# Altium footprint library Header.PcbLib: 28 footprints (part 1 of 2)
Each footprint in its own frame and in the unit in brackets; x right, y up, seen from the top. Pads: shape width x height; smd on the part's side, far side on the other; paste and mask are expansions set on the pad; w line width, h text height; cw(c..) or ccw(c..) is an arc to the next point about the centre after c.
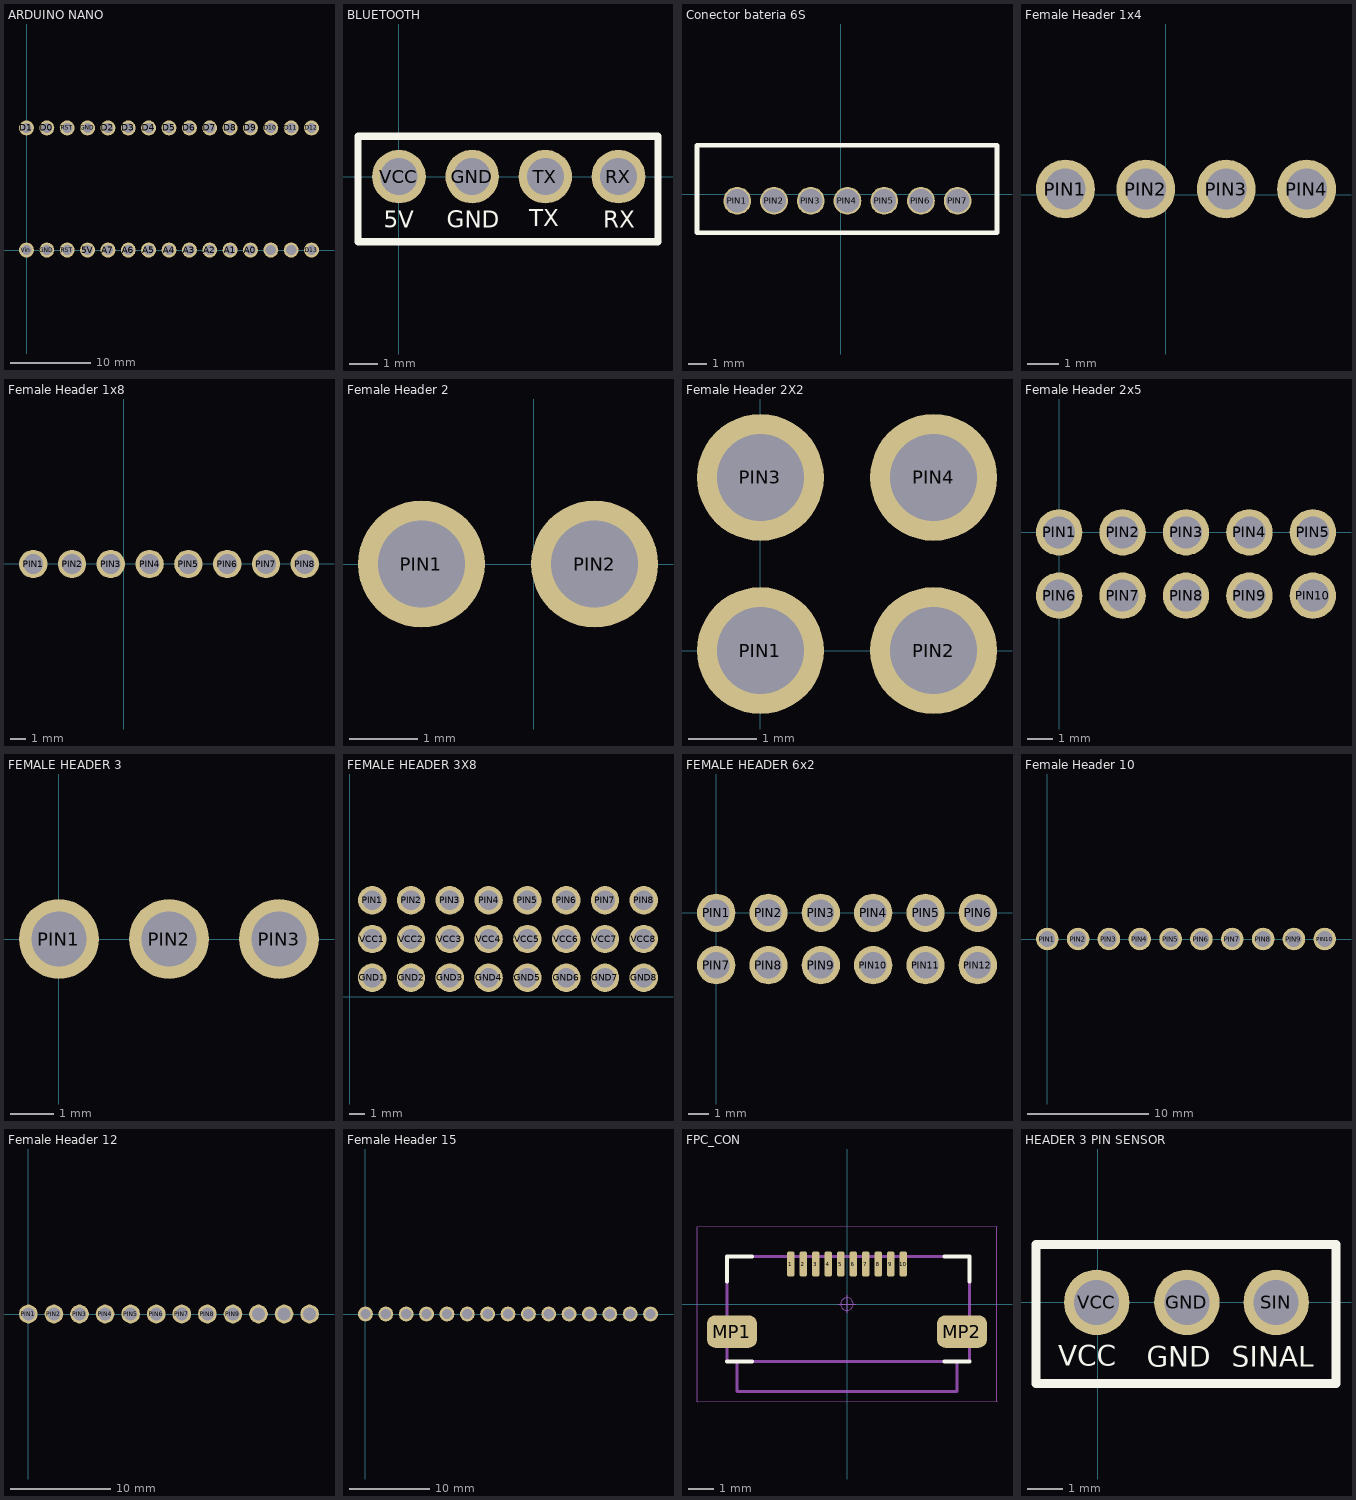
[diagram p0: the footprints below, top view; thin cyan lines are the x and y axes]

## ARDUINO NANO [mm]
pads (30):
  round 1.86 hole 1.28: 3.3V(33.01,0) 5V(7.61,0) A0(27.93,0) A1(25.39,0) A2(22.85,0) A3(20.31,0) A4(17.77,0) A5(15.23,0) A6(12.69,0) A7(10.15,0) AREF(30.47,0) D0(2.53,15.24) D1(-0.01,15.24) D2(10.15,15.24) D3(12.69,15.24) D4(15.23,15.24) D5(17.77,15.24) D6(20.31,15.24) D7(22.85,15.24) D8(25.39,15.24) D9(27.93,15.24) D10(30.47,15.24) D11(33.01,15.24) D12(35.55,15.24) D13(35.55,0) GND(2.53,0) GND(7.61,15.24) RST(5.07,0) RST(5.07,15.24) Vin(-0.01,0)
3D body "zl305-15s_p2-54_l38-6_w2-5_h5.stp": height 5, standoff -3, extent -1.526,-1.25 37.074,1.25
3D body "zl305-15s_p2-54_l38-6_w2-5_h5.stp": height 5, standoff -3, extent -1.526,13.99 37.074,16.49

## BLUETOOTH [mm]
pads (4):
  round 1.86 hole 1.28: GND(2.54,0) RX(7.62,0) TX(5.08,0) VCC(0,0)
Top Overlay:
  lines w0.254: -1.422,-2.261 -1.422,1.397 8.992,1.397 8.992,-2.261 -1.422,-2.261
  text "5V" at -0.533,-1.961 h1
  text "RX" at 7.087,-1.961 h1
  text "TX" at 4.521,-1.91 h1
  text "GND" at 1.651,-1.972 h1
3D body "User Library-ZL262-4SG.step": height 8.4, standoff -3.15, extent -1.295,-1.255 8.865,1.245
3D body "User Library-HC-06.step": height 46, standoff 3.25, extent -3.672,-0.434 11.328,5.666

## Conector bateria 6S [mm]
pads (7):
  round 1.5 hole 1.28: PIN1(-5.6,-0.35) PIN2(-3.617,-0.35) PIN3(-1.633,-0.35) PIN4(0.35,-0.35) PIN5(2.333,-0.35) PIN6(4.317,-0.35) PIN7(6.3,-0.35)
Top Overlay:
  lines w0.254: -7.775,-2.075 8.425,-2.075 8.425,2.65 -7.775,2.65 -7.775,-2.075
3D body "User Library-b7b-ph-ks.STEP": height 6, standoff -3, extent -7.6,-1.975 8.3,2.525

## Female Header 1x4 [mm]
pads (4):
  round 1.86 hole 1.28: PIN1(-3.17,0.175) PIN2(-0.63,0.175) PIN3(1.91,0.175) PIN4(4.45,0.175)
3D body "User Library-ZL262-4SG.STEP": height 8.4, standoff -3.15, extent -4.41,-1.125 5.75,1.375

## Female Header 1x8 [mm]
pads (8):
  round 1.86 hole 1.28: PIN1(-5.925,-0.025) PIN2(-3.385,-0.025) PIN3(-0.845,-0.025) PIN4(1.695,-0.025) PIN5(4.235,-0.025) PIN6(6.775,-0.025) PIN7(9.315,-0.025) PIN8(11.855,-0.025)
3D body "User Library-SIL_Socket08_.STEP": height 8.5, standoff -10.46, extent -7.245,-1.295 13.075,1.245

## Female Header 2 [mm]
pads (2):
  round 1.86 hole 1.28: PIN1(-1.651,0) PIN2(0.889,0)
3D body "User Library-HeaderRangLuocDonThang2_54mm.STEP": height 8.5, standoff -3.2, extent -3.048,-1.397 2.032,1.143

## Female Header 2X2 [mm]
pads (4):
  round 1.86 hole 1.28: PIN1(0,0) PIN2(2.54,0) PIN3(0,2.54) PIN4(2.54,2.54)
3D body "User Library-HeaderRangLuocDonThang2_54mm.STEP": height 8.5, standoff -3.2, extent -1.323,-1.347 3.757,1.193
3D body "User Library-HeaderRangLuocDonThang2_54mm.STEP": height 8.5, standoff -3.2, extent -1.323,1.203 3.757,3.743

## Female Header 2x5 [mm]
pads (10):
  round 1.86 hole 1.28: PIN1(0,0) PIN2(2.54,0) PIN3(5.08,0) PIN4(7.62,0) PIN5(10.16,0) PIN6(0,-2.54) PIN7(2.54,-2.54) PIN8(5.08,-2.54) PIN9(7.62,-2.54) PIN10(10.16,-2.54)
3D body "User Library-Header_Fem_1X10.STEP": height 8.5, standoff -3.2, extent -1.38,-3.81 11.57,1.27

## FEMALE HEADER 3 [mm]
pads (3):
  round 1.86 hole 1.28: PIN1(0,0) PIN2(2.565,0) PIN3(5.13,0)
3D body "User Library-zl262-3s_p2-54_l8-12_w2-54_h8-5.STEP": height 8.5, standoff -3, extent -1.516,-1.27 6.604,1.27

## FEMALE HEADER 3X8 [mm]
pads (24):
  round 1.86 hole 1.28: GND1(1.472,1.25) GND2(4.012,1.25) GND3(6.552,1.25) GND4(9.092,1.25) GND5(11.632,1.25) GND6(14.172,1.25) GND7(16.712,1.25) GND8(19.252,1.25) PIN1(1.472,6.33) PIN2(4.012,6.33) PIN3(6.552,6.33) PIN4(9.092,6.33) PIN5(11.632,6.33) PIN6(14.172,6.33) PIN7(16.712,6.33) PIN8(19.252,6.33) VCC1(1.472,3.79) VCC2(4.012,3.79) VCC3(6.552,3.79) VCC4(9.092,3.79) VCC5(11.632,3.79) VCC6(14.172,3.79) VCC7(16.712,3.79) VCC8(19.252,3.79)
3D body "User Library-zl262-8s_p2-54_l20-82_w2-54_h8-5.STEP": height 8.63, standoff -2.87, extent 0.004,5.08 20.824,7.62
3D body "User Library-zl262-8s_p2-54_l20-82_w2-54_h8-5.STEP": height 8.63, standoff -2.87, extent 0.004,2.54 20.824,5.08
3D body "User Library-zl262-8s_p2-54_l20-82_w2-54_h8-5.STEP": height 8.63, standoff -2.87, extent 0.004,0 20.824,2.54

## FEMALE HEADER 6x2 [mm]
pads (12):
  round 1.86 hole 1.28: PIN1(0,0) PIN2(2.54,0) PIN3(5.08,0) PIN4(7.62,0) PIN5(10.16,0) PIN6(12.7,0) PIN7(0,-2.54) PIN8(2.54,-2.54) PIN9(5.08,-2.54) PIN10(7.62,-2.54) PIN11(10.16,-2.54) PIN12(12.7,-2.54)
3D body "User Library-Header_Fem_1X10.STEP": height 8.5, standoff -3.2, extent -1.38,-3.81 11.57,1.27
3D body "User Library-HeaderRangLuocDonThang2_54mm.STEP": height 8.5, standoff -3.2, extent 11.56,-3.815 14.1,1.265

## Female Header 10 [mm]
pads (10):
  round 1.86 hole 1.28: PIN1(0,0) PIN2(2.54,0) PIN3(5.08,0) PIN4(7.62,0) PIN5(10.16,0) PIN6(12.7,0) PIN7(15.24,0) PIN8(17.78,0) PIN9(20.32,0) PIN10(22.86,0)
3D body "User Library-Header_Fem_1X10.STEP": height 8.5, standoff -3.2, extent -1.423,-1.27 24.477,1.27

## Female Header 12 [mm]
pads (12):
  round 1.86 hole 1.28: PIN1(0,0) PIN2(2.54,0) PIN3(5.08,0) PIN4(7.62,0) PIN5(10.16,0) PIN6(12.7,0) PIN7(15.24,0) PIN8(17.78,0) PIN9(20.32,0) PIN10(22.86,0) PIN11(25.4,0) PIN12(27.94,0)
3D body "HEADER 12PINS FEMALE.stp": height 8.3, standoff -3.2, extent -1.7,-1.2 29.64,1.2

## Female Header 15 [mm]
pads (15):
  round 1.86 hole 1.28: PIN1(0,0) PIN2(2.54,0) PIN3(5.08,0) PIN4(7.62,0) PIN5(10.16,0) PIN6(12.7,0) PIN7(15.24,0) PIN8(17.78,0) PIN9(20.32,0) PIN10(22.86,0) PIN11(25.4,0) PIN12(27.94,0) PIN13(30.48,0) PIN14(33.02,0) PIN15(35.56,0)
3D body "zl305-15s_p2-54_l38-6_w2-5_h5.stp": height 5, standoff -3, extent -1.516,-1.27 37.084,1.23

## FPC_CON [mm] "Small Outline IC (SOIC), 1.27 mm pitch; 8 pin, 4.90 mm L X 3.90 mm W X 1.75 mm H body"
height 1.75
pads (12):
  rrect50% 0.3x1 smd: 1(-2.25,1.6) 2(-1.75,1.6) 3(-1.25,1.6) 4(-0.75,1.6) 5(-0.25,1.6) 6(0.25,1.6) 7(0.75,1.6) 8(1.25,1.6) 9(1.75,1.6) 10(2.25,1.6)
  rrect50% 2x1.3 smd: MP1(-4.6,-1.1) MP2(4.6,-1.1)
Top Overlay:
  lines w0.15: -4.8,-2.3 -3.8,-2.3 ; -4.8,0.9 -4.8,1.9 -3.8,1.9 ; 3.9,-2.3 4.9,-2.3 ; 3.9,1.9 4.9,1.9 4.9,0.9
Mechanical 11:
  lines w0.12: -4.4,-2.3 -4.4,-3.5 4.4,-3.5 4.4,-2.3 ; -4.8,-2.3 4.9,-2.3 4.9,1.9 -4.8,1.9 -4.8,-2.3
Mechanical 12:
  lines w0.025: -5.1,-1.5 -3.9,-1.5 -3.9,-0.7 -5.1,-0.7 -5.1,-1.5 ; -4.8,-2.3 -4.8,1.9 4.9,1.9 4.9,-2.3 -4.8,-2.3 ; -2.35,1.3 -2.15,1.3 -2.15,1.9 -2.35,1.9 -2.35,1.3 ; -1.85,1.3 -1.65,1.3 -1.65,1.9 -1.85,1.9 -1.85,1.3 ; -1.35,1.3 -1.15,1.3 -1.15,1.9 -1.35,1.9 -1.35,1.3 ; -0.85,1.3 -0.65,1.3 -0.65,1.9 -0.85,1.9 -0.85,1.3 ; -0.35,1.3 -0.15,1.3 -0.15,1.9 -0.35,1.9 -0.35,1.3 ; 0.15,1.3 0.35,1.3 0.35,1.9 0.15,1.9 0.15,1.3 ; 0.65,1.3 0.85,1.3 0.85,1.9 0.65,1.9 0.65,1.3 ; 1.15,1.3 1.35,1.3 1.35,1.9 1.15,1.9 1.15,1.3 ; 1.65,1.3 1.85,1.3 1.85,1.9 1.65,1.9 1.65,1.3 ; 2.15,1.3 2.35,1.3 2.35,1.9 2.15,1.9 2.15,1.3 ; 4,-1.5 5.2,-1.5 5.2,-0.7 4,-0.7 4,-1.5
Mechanical 15:
  circle w0.05: c0,0 r0.25
  lines w0.05: -0.35,0 0.35,0 ; 0,-0.35 0,0.35 ; 6,-3.9 6,3.1 ; 6,-3.895 -6,-3.9 -6,3.1 6,3.105
Mechanical 16:
  text ".Designator" at 0,0 h1.5
3D body "5052781033.stp": height 1.88, standoff -0.02, extent -5.25,-3.5 5.25,1.8

## HEADER 3 PIN SENSOR [mm]
pads (3):
  round 1.86 hole 1.28: GND(2.54,0) SIN(5.08,0) VCC(-0.025,0)
Top Overlay:
  lines w0.254: -1.753,-2.311 6.782,-2.311 6.782,1.651 -1.753,1.651 -1.753,-2.311
  text "SINAL" at 3.81,-2.032 h1
  text "GND" at 1.397,-2.032 h1
  text "VCC" at -1.118,-2.007 h1
3D body "User Library-zl262-3s_p2-54_l8-12_w2-54_h8-5.STEP": height 8.5, standoff -3, extent -1.571,-1.092 6.549,1.448